# Altium schematic symbol library Discrete.SchLib: 6 symbols
Pins are listed as number, name and electrical type; pins without a type are passive.

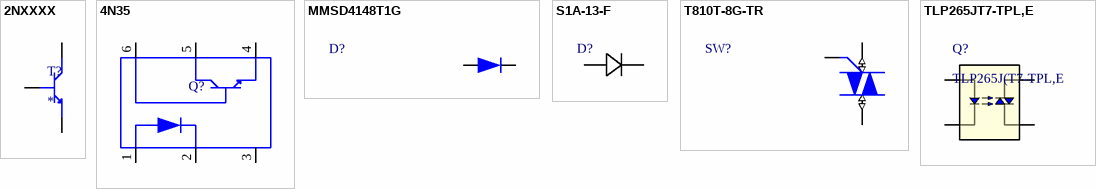
[diagram p0: symbols 2NXXXX to TLP265JT7-TPL,E]

## 2NXXXX
designator T?
footprint TO-92
pins: 1 B, 2 C, 3 E

## 4N35
designator Q?  (value not drawn)
Optoisolator Transistor with Base Output 5000Vrms 1 Channel 6-DIP; MF: Vishay; MP: 4N35; Purchase-URL: https://pricing.snapeda.com/search/part/4N35/?ref=eda; Price: None; SnapEDA_Link: https://www.snapeda.com/parts/4N35/Vishay%20Semiconductor%20Opto%20Division/view-part/579099/?ref=snap; Availability: Good; Value: *; Check_prices: https://www.snapeda.com/parts/4N35/Vishay%20Semiconductor%20Opto%20Division/view-part/579099/?ref=eda; Package: DIP-6 Texas Instruments
footprint DIP6-2.54
pins: 1 ANODE (io), 2 CATHODE (io), 3 NC (io), 4 EMITER (io), 5 COLLECTOR (io), 6 BASE (io)

## MMSD4148T1G
designator D?  (value not drawn)
DIODE; Manufacturer_Name: onsemi; Copyright: Copyright (C) 2025 Ultra Librarian. All rights reserved.; Manufacturer_Part_Number: MMSD4148T1G; RefDes: RefDes; Type: Type
footprint SOD-123
pins: 1 K, 2 A

## S1A-13-F
designator D?
Diodo rectificador; Mfr_Name: Diodes Inc
footprint SMA
pins: 1, 2

## T810T-8G-TR
designator SW?  (value not drawn)
8A 800V 150&#176;C D&#178;PAK Logic Level T-Series Triac; Manufacturer_Name: STMicroelectronics; Copyright: Copyright (C) 2025 Ultra Librarian. All rights reserved.; Manufacturer_Part_Number: T810T-8G-TR; Datasheet: https://www.st.com/resource/en/datasheet/t810t-8g.pdf; RefDes: RefDes; Type: Type
footprint D2PAK
pins: 1 A1 (io), 2 A2 (io), 3 G

## TLP265JT7-TPL,E
designator Q?, comment TLP265J(T7-TPL,E
No Description Available; Manufacturer_Name: Toshiba Electronic Devices & Storage Corp.; Number_devices_in_Package: 1; Copyright: Copyright (C) 2025 Ultra Librarian. All rights reserved.; Manufacturer_Part_Number: TLP265J(T7-TPL,E; Source_Package: TLP265J; RefDes: Refdes; Type: Type
footprint 4pin SO6_TOS
pins: 1, 3, 4, 6